# EAGLE library part K-HEADER-FEMALE-1X11- (library elpp-v1.1)
FEMALE HEADER
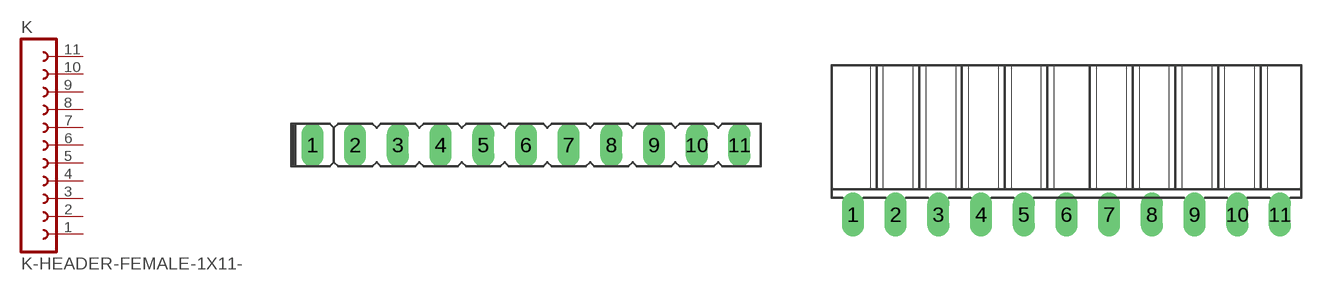
[diagram p23: symbol with the pads of EPP-SIL-F-11-WAY; footprints EPP-SIL-F-11-WAY, EPP-SIL-F-11-WAY-90DEG]

Designator prefix K

## K-HEADER-FEMALE-1X11-V (FARNELL: 9728856; RS: unknown)  [EPP-SIL-F-11-WAY]
1  1  pas
2  2  pas
3  3  pas
4  4  pas
5  5  pas
6  6  pas
7  7  pas
8  8  pas
9  9  pas
10  10  pas
11  11  pas

## K-HEADER-FEMALE-1X11-H (FARNELL: 9728880; RS: unknown)  [EPP-SIL-F-11-WAY-90DEG]
Pads as for EPP-SIL-F-11-WAY

## Footprint EPP-SIL-F-11-WAY (pad centres in mm)
FEMALE HEADER, 1 row
drill 0.8 long: 1 -12.7,0; 2 -10.16,0; 3 -7.62,0; 4 -5.08,0; 5 -2.54,0; 6 0,0; 7 2.54,0; 8 5.08,0; 9 7.62,0; 10 10.16,0; 11 12.7,0

## Footprint EPP-SIL-F-11-WAY-90DEG (pad centres in mm)
FEMALE HEADER, 1 row, 90 degrees
drill 0.8 long: 1 -12.7,0; 2 -10.16,0; 3 -7.62,0; 4 -5.08,0; 5 -2.54,0; 6 0,0; 7 2.54,0; 8 5.08,0; 9 7.62,0; 10 10.16,0; 11 12.7,0